# Altium footprint library board_component.PcbLib: 8 footprints
Each footprint in its own frame and in the unit in brackets; x right, y up, seen from the top. Pads: shape width x height; smd on the part's side, far side on the other; paste and mask are expansions set on the pad; w line width, h text height; cw(c..) or ccw(c..) is an arc to the next point about the centre after c.
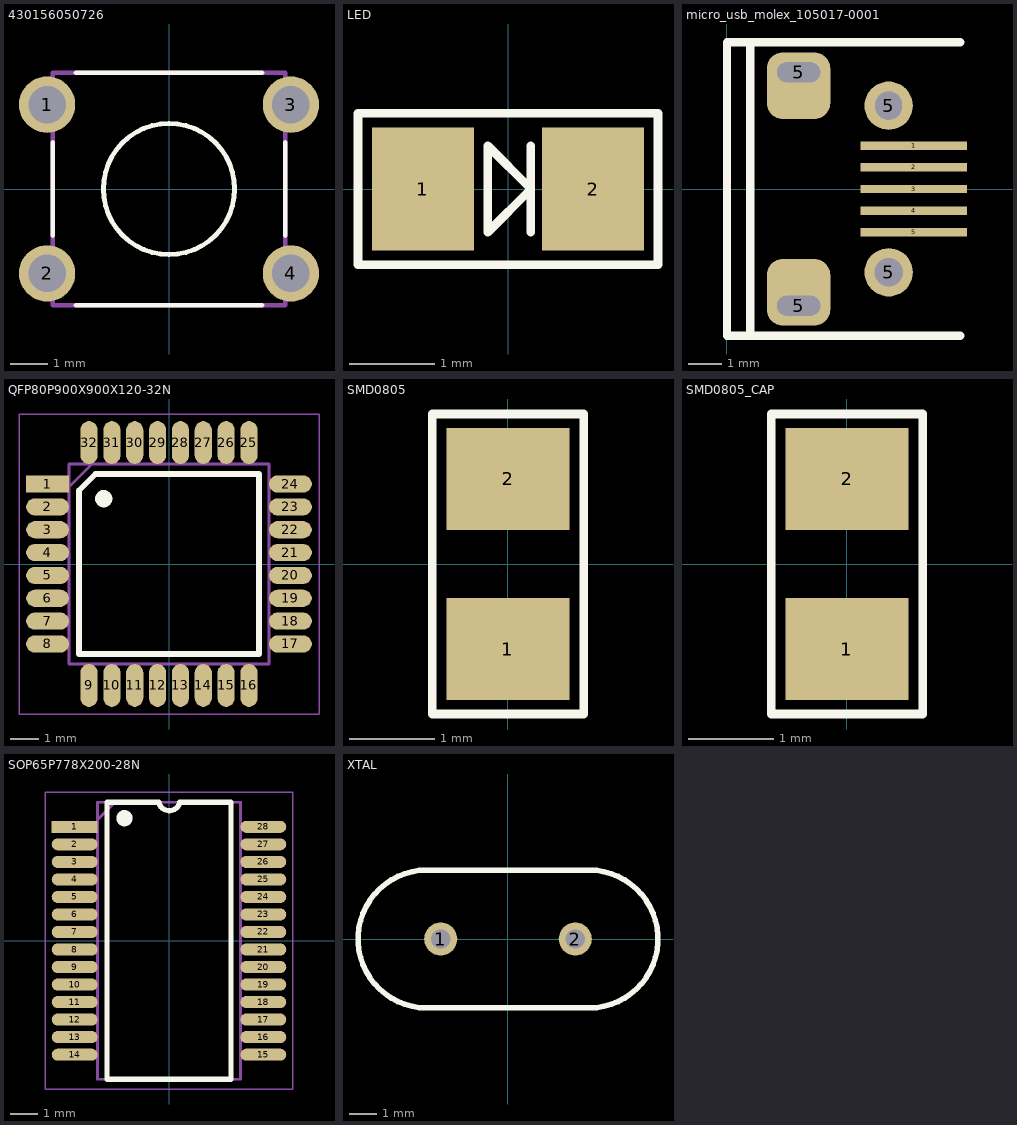
[diagram p0: the footprints below, top view; thin cyan lines are the x and y axes]

## 430156050726 [mm] "6*6mm vertical type, THT, height 5.0mm, white actuator, 260gf, Bulk"
height 5
pads (4):
  round 1.5 hole 1: 1(-3.25,2.25) 2(-3.25,-2.25) 3(3.25,2.25) 4(3.25,-2.25)
Top Overlay:
  circle w0.127: c0,0 r1.75
  lines w0.127: -3.1,-1.24 -3.1,1.24 ; -2.48,-3.1 2.48,-3.1 ; -2.48,3.1 2.48,3.1 ; 3.1,-1.24 3.1,1.24
Mechanical 13:
  lines w0.127: -3.1,-3.1 -3.1,3.1 3.1,3.1 3.1,-3.1 -3.1,-3.1
3D body "4301x60507x6.stp": height 5, standoff -3.49, extent -3.947,-3.1 3.947,3.1

## LED [mm]
pads (2):
  rect 1.2x1.45 smd: 1(-1,0) 2(1,0)
Top Overlay:
  lines w0.1: 0.27,-0.508 0.27,0.508 ; -1.762,-0.889 -1.762,0.889 1.762,0.889 1.762,-0.889 -1.762,-0.889 ; -0.238,-0.508 -0.238,0.508 0.27,0 -0.238,-0.508
3D body: height 0.5, standoff 0, extent -2.544,-0.217 -2.544,-0.217
3D body "User Library-User Library-led_0805 GRE.step": height 1.1, standoff 0, extent -1.01,-0.625 1.01,0.625

## micro_usb_molex_105017-0001 [mm]
pads (9):
  rect 3.2x0.25 smd: 1(5.6,1.3) 2(5.6,0.65) 3(5.6,0) 4(5.6,-0.65) 5(5.6,-1.3)
  rrect50% 1.9x2 hole 0.6 slot 1.3 at 0 deg copper offset 0,0.4: 5(2.15,-3.5)
  rrect50% 1.9x2 hole 0.6 slot 1.3 at 0 deg copper offset 0,-0.4: 5(2.15,3.5)
  round 1.45 hole 0.85: 5(4.85,-2.5)
  round 1.45 hole 0.85 slot 0.8 at 0 deg: 5(4.85,2.5)
Top Overlay:
  lines w0.254: 0.7,-4.4 0.7,4.4 ; 7,-4.4 0,-4.4 0,0 0,4.4 7,4.4
3D body "1050170001.stp": height 2.78, standoff -0.53, extent -0.45,-4.1 4.95,4.1

## QFP80P900X900X120-32N [mm]
pads (32):
  rect 1.5x0.6 smd: 1(-4.25,2.8)
  oval 1.5x0.6 smd: 2(-4.25,2) 3(-4.25,1.2) 4(-4.25,0.4) 5(-4.25,-0.4) 6(-4.25,-1.2) 7(-4.25,-2) 8(-4.25,-2.8) 17(4.25,-2.8) 18(4.25,-2) 19(4.25,-1.2) 20(4.25,-0.4) 21(4.25,0.4) 22(4.25,1.2) 23(4.25,2) 24(4.25,2.8)
  oval 0.6x1.5 smd: 9(-2.8,-4.25) 10(-2,-4.25) 11(-1.2,-4.25) 12(-0.4,-4.25) 13(0.4,-4.25) 14(1.2,-4.25) 15(2,-4.25) 16(2.8,-4.25) 25(2.8,4.25) 26(2,4.25) 27(1.2,4.25) 28(0.4,4.25) 29(-0.4,4.25) 30(-1.2,4.25) 31(-2,4.25) 32(-2.8,4.25)
Top Overlay:
  circle w0.4: c-2.286,2.286 r0.1
  lines w0.2: -3.15,-3.15 3.15,-3.15 3.15,3.15 -2.571,3.15 -3.15,2.571 -3.15,-3.15
Mechanical 13:
  lines w0.1: -3.5,2.7 -2.7,3.5 ; -3.5,-3.5 3.5,-3.5 3.5,3.5 -3.5,3.5 -3.5,-3.5
Mechanical 15:
  lines w0.05: -5.25,-5.25 5.25,-5.25 5.25,5.25 -5.25,5.25 -5.25,-5.25
3D body "ATMEGA328PB-AU.stp": height 1.2, standoff 0, extent -4.5,-4.5 4.5,4.5

## SMD0805 [mm]
pads (2):
  rect 1.45x1.2 smd: 1(0,-1) 2(0,1)
Top Overlay:
  lines w0.1: -0.889,-1.762 -0.889,1.762 0.889,1.762 0.889,-1.762 -0.889,-1.762
3D body "RES0805.stp": height 0.5, standoff 0, extent -0.62,-1 0.63,1

## SMD0805_CAP [mm]
pads (2):
  rect 1.45x1.2 smd: 1(0,-1) 2(0,1)
Top Overlay:
  lines w0.1: -0.889,-1.762 0.889,-1.762 0.889,1.762 -0.889,1.762 -0.889,-1.762
3D body "User Library-C0805-2.step": height 0.8, standoff 0, extent -0.615,-1 0.635,1

## SOP65P778X200-28N [mm]
pads (28):
  rect 1.7x0.45 smd: 1(-3.5,4.225)
  oval 1.7x0.45 smd: 2(-3.5,3.575) 3(-3.5,2.925) 4(-3.5,2.275) 5(-3.5,1.625) 6(-3.5,0.975) 7(-3.5,0.325) 8(-3.5,-0.325) 9(-3.5,-0.975) 10(-3.5,-1.625) 11(-3.5,-2.275) 12(-3.5,-2.925) 13(-3.5,-3.575) 14(-3.5,-4.225) 15(3.5,-4.225) 16(3.5,-3.575) 17(3.5,-2.925) 18(3.5,-2.275) 19(3.5,-1.625) 20(3.5,-0.975) 21(3.5,-0.325) 22(3.5,0.325) 23(3.5,0.975) 24(3.5,1.625) 25(3.5,2.275) 26(3.5,2.925) 27(3.5,3.575) 28(3.5,4.225)
Top Overlay:
  circle w0.4: c-1.651,4.546 r0.1
  lines w0.2: -2.3,-5.138 2.3,-5.138 2.3,5.138 0.402,5.138 cw(c0.011,5.228) -0.381,5.138 -2.3,5.138 -2.3,-5.138
Mechanical 13:
  lines w0.1: -2.65,4.488 -2,5.138 ; -2.65,-5.138 2.65,-5.138 2.65,5.138 -2.65,5.138 -2.65,-5.138
Mechanical 15:
  lines w0.05: -4.6,-5.5 4.6,-5.5 4.6,5.5 -4.6,5.5 -4.6,-5.5
3D body "FT232RL-REEL.stp": height 2, standoff 0, extent -3.888,-5.138 3.888,5.138

## XTAL [mm]
pads (2):
  round 1.2 hole 0.7: 1(-2.44,0) 2(2.44,0)
Top Overlay:
  lines w0.2: -2.94,-2.5 cw(c-2.94,0) -2.94,2.5 2.94,2.5 cw(c2.94,0) 2.94,-2.5 -2.94,-2.5